# EAGLE library part ADC08100 (library IC)
National Semiconductor ADC08100, 8 bit 20 MSPS to 100 MSPS, 1.3mV/MSPS A/D Converter
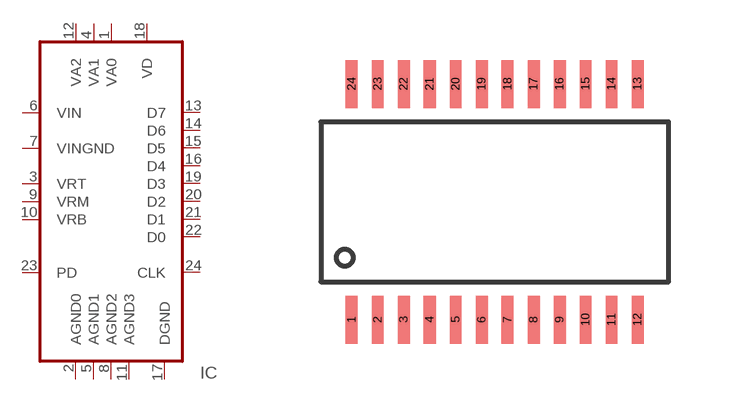
[diagram p49: symbol with the pads of TSSOP24; footprint TSSOP24]

Designator prefix IC

## ADC08100  [TSSOP24]
1  VA0  pwr
2  AGND0  pwr
3  VRT  pwr
4  VA1  pwr
5  AGND1  pwr
6  VIN  pwr
7  VINGND  pwr
8  AGND2  pwr
9  VRM  pwr
10  VRB  pwr
11  AGND3  pwr
12  VA2  pwr
13  D7
14  D6
15  D5
16  D4
17  DGND  pwr
18  VD  pwr
19  D3
20  D2
21  D1
22  D0
23  PD  pwr
24  CLK

## Footprint TSSOP24 (pad centres in mm)
smd 0.3 x 1.2: 1 -3.575,-2.95; 2 -2.925,-2.95; 3 -2.275,-2.95; 4 -1.625,-2.95; 5 -0.975,-2.95; 6 -0.325,-2.95; 7 0.325,-2.95; 8 0.975,-2.95; 9 1.625,-2.95; 10 2.275,-2.95; 11 2.925,-2.95; 12 3.575,-2.95; 13 3.575,2.95; 14 2.925,2.95; 15 2.275,2.95; 16 1.625,2.95; 17 0.975,2.95; 18 0.325,2.95; 19 -0.325,2.95; 20 -0.975,2.95; 21 -1.625,2.95; 22 -2.275,2.95; 23 -2.925,2.95; 24 -3.575,2.95